# EAGLE library part CAN-MOD (library ED-MOD)
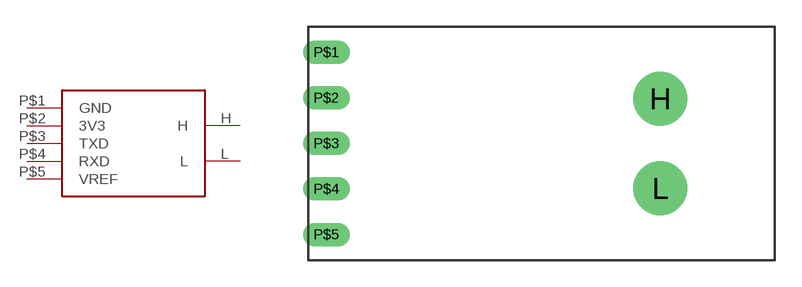
[diagram p2: symbol with the pads of CAN-MOD; footprint CAN-MOD]

Designator prefix -

## CAN-MOD  [CAN-MOD]
H  H
L  L
P$1  GND
P$2  3V3
P$3  TXD
P$4  RXD
P$5  VREF

## Footprint CAN-MOD (pad centres in mm)
drill 2: H 18.63,2.5; L 18.63,-2.5
drill 0.8 long: P$1 0,5.08; P$2 0,2.54; P$3 0,0; P$4 0,-2.54; P$5 0,-5.08